# EAGLE library part HM78V (library SUBMIND - Steckverbinder)
SUB-D
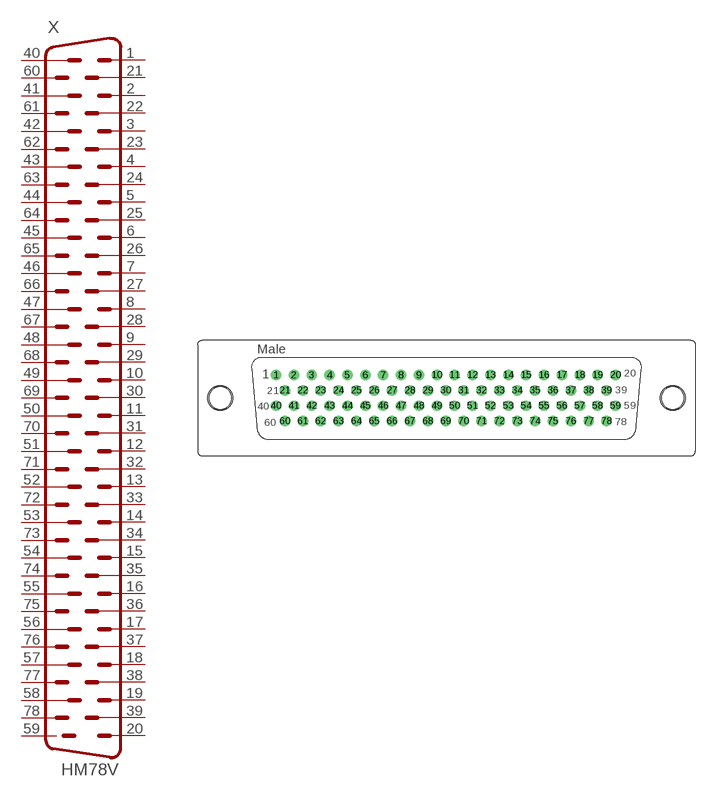
[diagram p47: symbol with the pads of HDM78V; footprint HDM78V]

Designator prefix X

## HM78V (OC_FARNELL: unknown; OC_NEWARK: unknown)  [HDM78V]
1  1  pas
2  2  pas
3  3  pas
4  4  pas
5  5  pas
6  6  pas
7  7  pas
8  8  pas
9  9  pas
10  10  pas
11  11  pas
12  12  pas
13  13  pas
14  14  pas
15  15  pas
16  16  pas
17  17  pas
18  18  pas
19  19  pas
20  20  pas
21  21  pas
22  22  pas
23  23  pas
24  24  pas
25  25  pas
26  26  pas
27  27  pas
28  28  pas
29  29  pas
30  30  pas
31  31  pas
32  32  pas
33  33  pas
34  34  pas
35  35  pas
36  36  pas
37  37  pas
38  38  pas
39  39  pas
40  40  pas
41  41  pas
42  42  pas
43  43  pas
44  44  pas
45  45  pas
46  46  pas
47  47  pas
48  48  pas
49  49  pas
50  50  pas
51  51  pas
52  52  pas
53  53  pas
54  54  pas
55  55  pas
56  56  pas
57  57  pas
58  58  pas
59  59  pas
60  60  pas
61  61  pas
62  62  pas
63  63  pas
64  64  pas
65  65  pas
66  66  pas
67  67  pas
68  68  pas
69  69  pas
70  70  pas
71  71  pas
72  72  pas
73  73  pas
74  74  pas
75  75  pas
76  76  pas
77  77  pas
78  78  pas

## Footprint HDM78V (pad centres in mm)
SUB-D
drill 0.9: 1 -23.024,3.12; 2 -20.611,3.12; 3 -18.198,3.12; 4 -15.785,3.12; 5 -13.372,3.12; 6 -10.959,3.12; 7 -8.546,3.12; 8 -6.133,3.12; 9 -3.72,3.12; 10 -1.307,3.12; 11 1.106,3.12; 12 3.519,3.12; 13 5.932,3.12; 14 8.345,3.12; 15 10.758,3.12; 16 13.171,3.12; 17 15.584,3.12; 18 17.997,3.12; 19 20.41,3.12; 20 22.823,3.12; 21 -21.817,1.04; 22 -19.404,1.04; 23 -16.991,1.04; 24 -14.578,1.04; 25 -12.165,1.04; 26 -9.752,1.04; 27 -7.339,1.04; 28 -4.926,1.04; 29 -2.513,1.04; 30 -0.1,1.04; 31 2.313,1.04; 32 4.726,1.04; 33 7.139,1.04; 34 9.552,1.04; 35 11.965,1.04; 36 14.378,1.04; 37 16.791,1.04; 38 19.204,1.04; 39 21.617,1.04; 40 -23.024,-1.04; 41 -20.611,-1.04; 42 -18.198,-1.04; 43 -15.785,-1.04; 44 -13.372,-1.04; 45 -10.959,-1.04; 46 -8.546,-1.04; 47 -6.133,-1.04; 48 -3.72,-1.04; 49 -1.307,-1.04; 50 1.106,-1.04; 51 3.519,-1.04; 52 5.932,-1.04; 53 8.345,-1.04; 54 10.758,-1.04; 55 13.171,-1.04; 56 15.584,-1.04; 57 17.997,-1.04; 58 20.41,-1.04; 59 22.823,-1.04; 60 -21.817,-3.12; 61 -19.404,-3.12; 62 -16.991,-3.12; 63 -14.578,-3.12; 64 -12.165,-3.12; 65 -9.752,-3.12; 66 -7.339,-3.12; 67 -4.926,-3.12; 68 -2.513,-3.12; 69 -0.1,-3.12; 70 2.313,-3.12; 71 4.726,-3.12; 72 7.139,-3.12; 73 9.552,-3.12; 74 11.965,-3.12; 75 14.378,-3.12; 76 16.791,-3.12; 77 19.204,-3.12; 78 21.617,-3.12
hole 3 at -30.55,0
hole 3 at 30.55,0